# Altium integrated library Analog Devices Data Converters Digital-to-Analog Converters.IntLib: 2231 symbols (part 146 of 181)
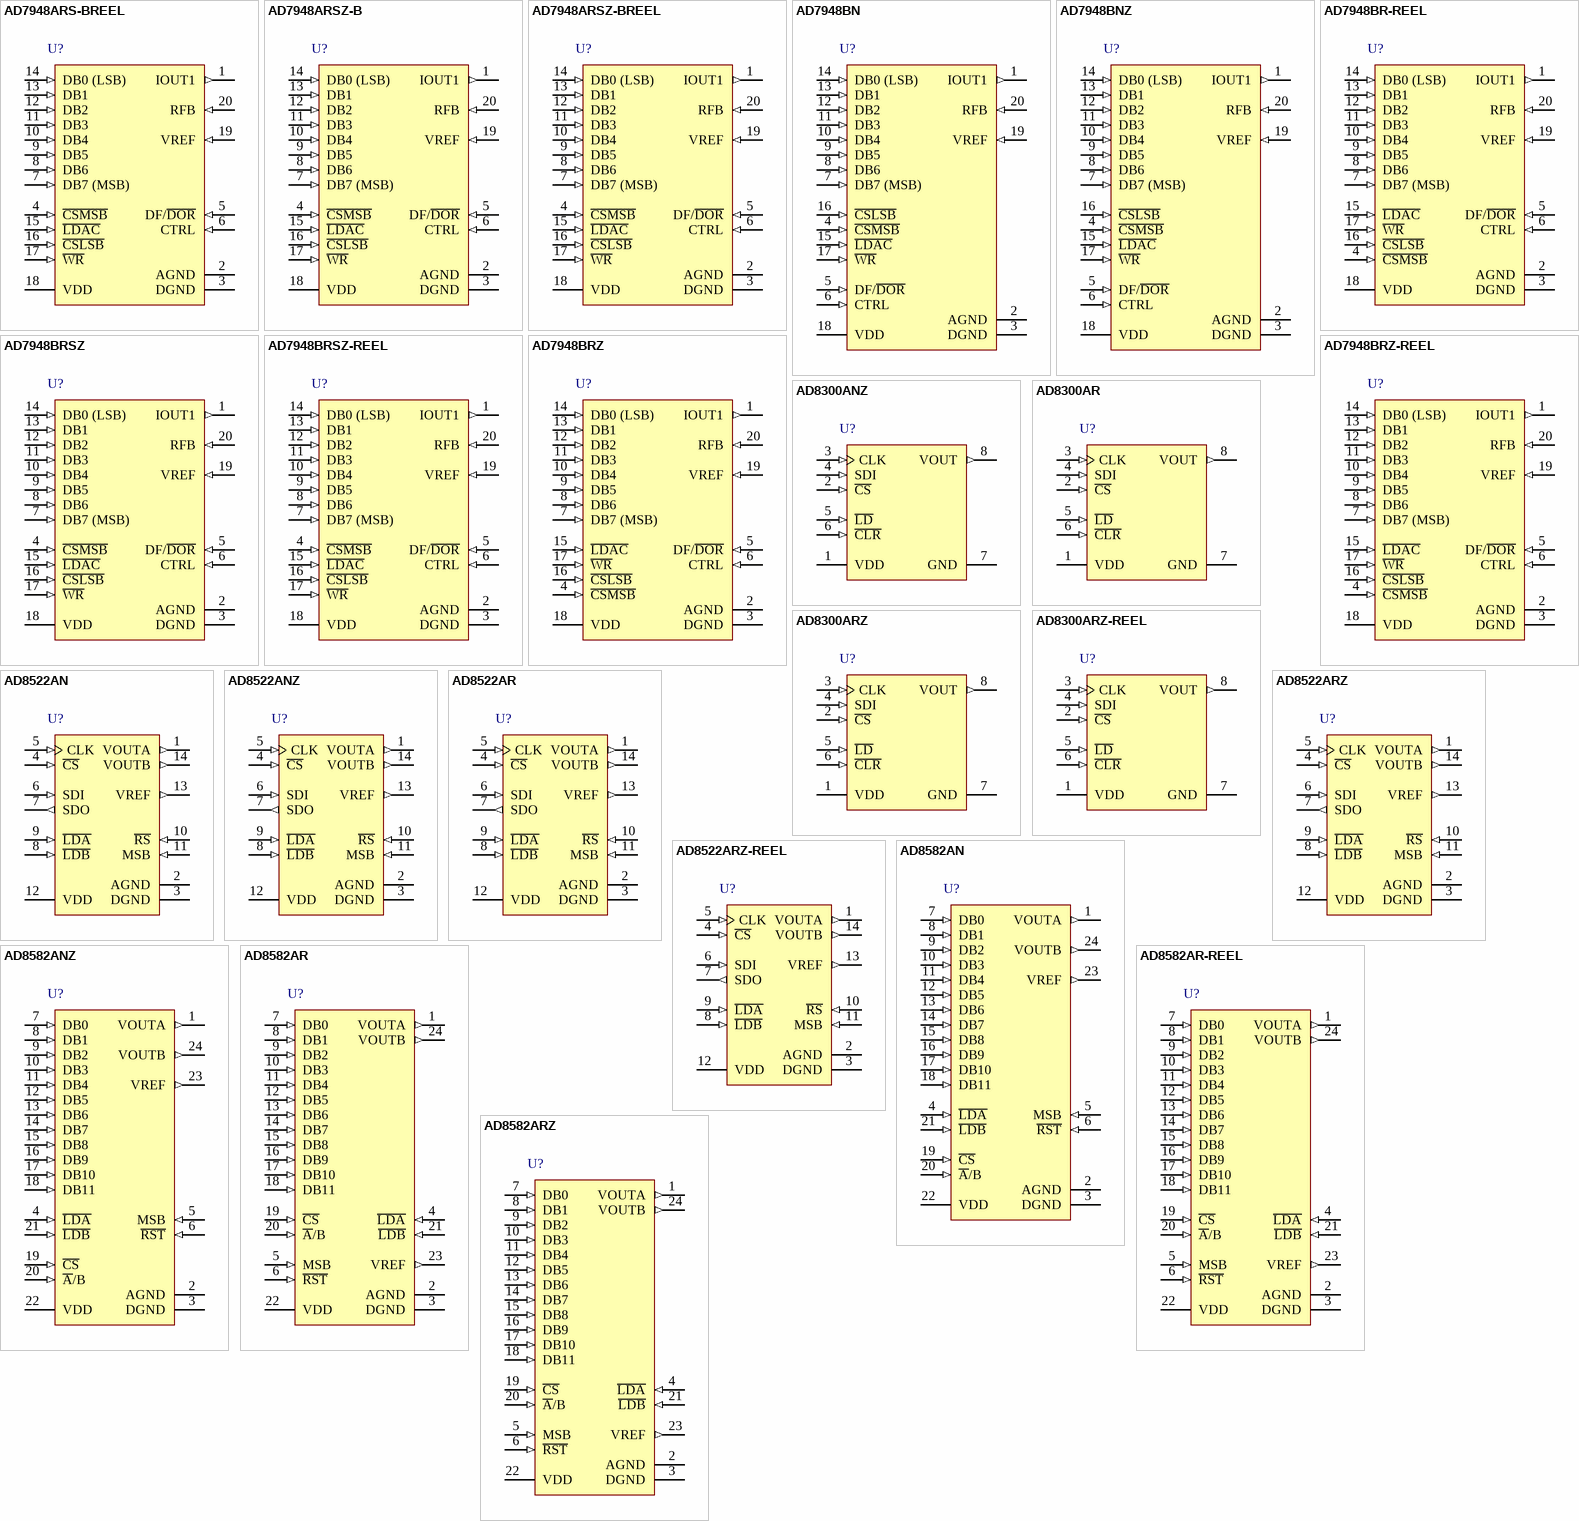
[diagram p259: symbols AD7948ARS-BREEL to AD8582ARZ]

## AD8300ANZ
designator U?
Single 12-Bit Digital-to-Analog Converter with Serial Interface, 3 V, -40 to +85 degC, N-8, Pb-Free, Tube; Generic Part Number: AD8300; Manufacturer: Analog Devices; PartNumber: AD8300ANZ; # DAC Outputs: 1; Max V+: 5.5V; Op Pwr Diss: 8.5mW; Resolution (Bits): 12; Settling Time: 14µs; Single Supply: Yes; DatasheetVersion: Rev.A; PackageVersion: 070606-A; PackageReference: N-8; PackageDescription: 8-Lead Plastic Dual In-Line Package [PDIP] Narrow Body; Supplier 1: Digi-Key; Supplier Part Number 1: AD8300ANZ-ND; Supplier 2: Mouser; Supplier Part Number 2: 584-AD8300ANZ; Packing: Tube; RoHS: Y; Mounting Technology: Through Hole; Code_JEDEC: MS-001; ComponentLink1Description: Manufacturer URL; ComponentLink1URL: http://www.analog.com/en/index.html; ComponentLink2Description: Datasheet; ComponentLink2URL: http://www.analog.com/static/imported-files/data_sheets/AD8300.pdf; ComponentLink3Description: Package Specification; ComponentLink3URL: http://www.analog.com/static/imported-files/packages/PKG_PDF/PDIP(N)/N_8.pdf; ComponentLink4Description: Product URL; ComponentLink4URL: http://www.analog.com/en/digital-to-analog-converters/da-converters/ad8300/products/product.html
footprint N-8 (DIP, 8-Leads, Row Spacing 7.62mm, Pitch 2.54mm, Body 9.6x6.6mm)
pins: 1 VDD (power) "Positive power supply input. Specified range of operation +2.7 V to +5.5 V.", 2 ~{CS} (in) "Chip Select, active low input. Disables shift register loading when high. Does not affect L\D\ operation.", 3 CLK (in) "Clock input, positive edge clocks data into shift register.", 4 SDI (in) "Serial Data Input, input data loads directly into the shift register, MSB first.", 5 ~{LD} (in) "Load DAC register strobes, active low. Transfers shift register data to DAC register. See Truth Table I for operation. Asynchronous active low input.", 6 ~{CLR} (in) "Resets DAC register to zero condition. Asynchronous active low input.", 7 GND (power) "Analog and Digital Ground.", 8 VOUT (out) "DAC voltage output, 2.0475 V full scale with 0.5 mV per bit. An internal temperature stabilized reference maintains a fixed full-scale voltage independent of time, temperature and power supply variations."

## AD8300AR
designator U?
Single 12-Bit Digital-to-Analog Converter with Serial Interface, 3 V, -40 to +85 degC, R-8, Tube; Generic Part Number: AD8300; Manufacturer: Analog Devices; PartNumber: AD8300AR; # DAC Outputs: 1; Max V+: 5.5V; Op Pwr Diss: 8.5mW; Resolution (Bits): 12; Settling Time: 14µs; Single Supply: Yes; DatasheetVersion: Rev.A; PackageVersion: 060506-A; PackageReference: R-8; PackageDescription: 8-Lead Standard Small Outline Package [SOIC_N] Narrow Body; Supplier 1: Digi-Key; Supplier Part Number 1: AD8300AR-ND; Supplier 2: Mouser; Supplier Part Number 2: 584-AD8300AR; Packing: Tube; RoHS: N; Mounting Technology: Surface Mount; Code_JEDEC: MS-012-AA; Code_IPC: SOIC127P600-8; ComponentLink1Description: Manufacturer URL; ComponentLink1URL: http://www.analog.com/en/index.html; ComponentLink2Description: Datasheet; ComponentLink2URL: http://www.analog.com/static/imported-files/data_sheets/AD8300.pdf; ComponentLink3Description: Package Specification; ComponentLink3URL: http://www.analog.com/static/imported-files/packages/PKG_PDF/SOIC_Narrow%20(R)/R_8.pdf; ComponentLink4Description: Product URL; ComponentLink4URL: http://www.analog.com/en/digital-to-analog-converters/da-converters/ad8300/products/product.html
footprint R-8_N (SOIC, 8-Leads, Body 4.9x3.9mm, Pitch 1.27mm, IPC Medium Density)
footprint R-8_L (SOIC, 8-Leads, Body 4.9x3.9mm, Pitch 1.27mm, IPC High Density)
footprint R-8_M (SOIC, 8-Leads, Body 4.9x3.9mm, Pitch 1.27mm, IPC Low Density)
pins: 1 VDD (power) "Positive power supply input. Specified range of operation +2.7 V to +5.5 V.", 2 ~{CS} (in) "Chip Select, active low input. Disables shift register loading when high. Does not affect L\D\ operation.", 3 CLK (in) "Clock input, positive edge clocks data into shift register.", 4 SDI (in) "Serial Data Input, input data loads directly into the shift register, MSB first.", 5 ~{LD} (in) "Load DAC register strobes, active low. Transfers shift register data to DAC register. See Truth Table I for operation. Asynchronous active low input.", 6 ~{CLR} (in) "Resets DAC register to zero condition. Asynchronous active low input.", 7 GND (power) "Analog and Digital Ground.", 8 VOUT (out) "DAC voltage output, 2.0475 V full scale with 0.5 mV per bit. An internal temperature stabilized reference maintains a fixed full-scale voltage independent of time, temperature and power supply variations."

## AD8300ARZ
designator U?
Single 12-Bit Digital-to-Analog Converter with Serial Interface, 3 V, -40 to +85 degC, R-8, Pb-Free, Tube; Generic Part Number: AD8300; Manufacturer: Analog Devices; PartNumber: AD8300ARZ; # DAC Outputs: 1; Max V+: 5.5V; Op Pwr Diss: 8.5mW; Resolution (Bits): 12; Settling Time: 14µs; Single Supply: Yes; DatasheetVersion: Rev.A; PackageVersion: 060506-A; PackageReference: R-8; PackageDescription: 8-Lead Standard Small Outline Package [SOIC_N] Narrow Body; Supplier 1: Digi-Key; Supplier Part Number 1: AD8300ARZ-ND; Supplier 2: Farnell; Supplier Part Number 2: 1438629; Supplier 3: Newark; Supplier Part Number 3: 59K6546; Supplier 4: Mouser; Supplier Part Number 4: 584-AD8300ARZ; Packing: Tube; RoHS: Y; Mounting Technology: Surface Mount; Code_JEDEC: MS-012-AA; Code_IPC: SOIC127P600-8; ComponentLink1Description: Manufacturer URL; ComponentLink1URL: http://www.analog.com/en/index.html; ComponentLink2Description: Datasheet; ComponentLink2URL: http://www.analog.com/static/imported-files/data_sheets/AD8300.pdf; ComponentLink3Description: Package Specification; ComponentLink3URL: http://www.analog.com/static/imported-files/packages/PKG_PDF/SOIC_Narrow%20(R)/R_8.pdf; ComponentLink4Description: Product URL; ComponentLink4URL: http://www.analog.com/en/digital-to-analog-converters/da-converters/ad8300/products/product.html
footprint R-8_N (SOIC, 8-Leads, Body 4.9x3.9mm, Pitch 1.27mm, IPC Medium Density)
footprint R-8_L (SOIC, 8-Leads, Body 4.9x3.9mm, Pitch 1.27mm, IPC High Density)
footprint R-8_M (SOIC, 8-Leads, Body 4.9x3.9mm, Pitch 1.27mm, IPC Low Density)
pins: 1 VDD (power) "Positive power supply input. Specified range of operation +2.7 V to +5.5 V.", 2 ~{CS} (in) "Chip Select, active low input. Disables shift register loading when high. Does not affect L\D\ operation.", 3 CLK (in) "Clock input, positive edge clocks data into shift register.", 4 SDI (in) "Serial Data Input, input data loads directly into the shift register, MSB first.", 5 ~{LD} (in) "Load DAC register strobes, active low. Transfers shift register data to DAC register. See Truth Table I for operation. Asynchronous active low input.", 6 ~{CLR} (in) "Resets DAC register to zero condition. Asynchronous active low input.", 7 GND (power) "Analog and Digital Ground.", 8 VOUT (out) "DAC voltage output, 2.0475 V full scale with 0.5 mV per bit. An internal temperature stabilized reference maintains a fixed full-scale voltage independent of time, temperature and power supply variations."

## AD8300ARZ-REEL
designator U?
Single 12-Bit Digital-to-Analog Converter with Serial Interface, 3 V, -40 to +85 degC, R-8, Pb-Free, Reel; Generic Part Number: AD8300; Manufacturer: Analog Devices; PartNumber: AD8300ARZ-REEL; # DAC Outputs: 1; Max V+: 5.5V; Op Pwr Diss: 8.5mW; Resolution (Bits): 12; Settling Time: 14µs; Single Supply: Yes; DatasheetVersion: Rev.A; PackageVersion: 060506-A; PackageReference: R-8; PackageDescription: 8-Lead Standard Small Outline Package [SOIC_N] Narrow Body; Supplier 1: Digi-Key; Supplier Part Number 1: AD8300ARZ-REEL-ND; Supplier 2: Mouser; Supplier Part Number 2: 584-AD8300ARZ-R; Packing: Reel; RoHS: Y; Mounting Technology: Surface Mount; Code_JEDEC: MS-012-AA; Code_IPC: SOIC127P600-8; ComponentLink1Description: Manufacturer URL; ComponentLink1URL: http://www.analog.com/en/index.html; ComponentLink2Description: Datasheet; ComponentLink2URL: http://www.analog.com/static/imported-files/data_sheets/AD8300.pdf; ComponentLink3Description: Package Specification; ComponentLink3URL: http://www.analog.com/static/imported-files/packages/PKG_PDF/SOIC_Narrow%20(R)/R_8.pdf; ComponentLink4Description: Product URL; ComponentLink4URL: http://www.analog.com/en/digital-to-analog-converters/da-converters/ad8300/products/product.html
footprint R-8_N (SOIC, 8-Leads, Body 4.9x3.9mm, Pitch 1.27mm, IPC Medium Density)
footprint R-8_L (SOIC, 8-Leads, Body 4.9x3.9mm, Pitch 1.27mm, IPC High Density)
footprint R-8_M (SOIC, 8-Leads, Body 4.9x3.9mm, Pitch 1.27mm, IPC Low Density)
pins: 1 VDD (power) "Positive power supply input. Specified range of operation +2.7 V to +5.5 V.", 2 ~{CS} (in) "Chip Select, active low input. Disables shift register loading when high. Does not affect L\D\ operation.", 3 CLK (in) "Clock input, positive edge clocks data into shift register.", 4 SDI (in) "Serial Data Input, input data loads directly into the shift register, MSB first.", 5 ~{LD} (in) "Load DAC register strobes, active low. Transfers shift register data to DAC register. See Truth Table I for operation. Asynchronous active low input.", 6 ~{CLR} (in) "Resets DAC register to zero condition. Asynchronous active low input.", 7 GND (power) "Analog and Digital Ground.", 8 VOUT (out) "DAC voltage output, 2.0475 V full scale with 0.5 mV per bit. An internal temperature stabilized reference maintains a fixed full-scale voltage independent of time, temperature and power supply variations."

## AD8522AN
designator U?
Dual 12-Bit Digital-to-Analog Converter with Serial Interface, 5 V, -40 to +85 degC, N-14, Tube; Generic Part Number: AD8522; Manufacturer: Analog Devices; PartNumber: AD8522AN; # DAC Outputs: 2; Max V+: 5.5V; Op Pwr Diss: 25mW; Resolution (Bits): 12; Settling Time: 16µs; Single Supply: Yes; DatasheetVersion: Rev.A; PackageVersion: 070606-A; PackageReference: N-14; PackageDescription: 14-Lead Plastic Dual In-Line Package [PDIP] Narrow Body; Supplier 1: Digi-Key; Supplier Part Number 1: AD8522AN-ND; Supplier 2: Newark; Supplier Part Number 2: 66F5918; Supplier 3: Mouser; Supplier Part Number 3: 584-AD8522AN; Packing: Tube; RoHS: N; Mounting Technology: Through Hole; Code_JEDEC: MS-001; ComponentLink1Description: Manufacturer URL; ComponentLink1URL: http://www.analog.com/en/index.html; ComponentLink2Description: Datasheet; ComponentLink2URL: http://www.analog.com/static/imported-files/data_sheets/AD8522.pdf; ComponentLink3Description: Package Specification; ComponentLink3URL: http://www.analog.com/static/imported-files/packages/N_14.pdf; ComponentLink4Description: Product URL; ComponentLink4URL: http://www.analog.com/en/digital-to-analog-converters/da-converters/ad8522/products/product.html
footprint N-14 (DIP, 14-Leads, Row Spacing 7.62mm, Pitch 2.54mm, Body 19.2x6.6mm)
pins: 1 VOUTA (out) "DAC A voltage outputs, 4.095 V full scale, +/-5 mA output.", 2 AGND (power) "Analog Ground Input.", 3 DGND (power) "Digital Ground Input.", 4 ~{CS} (in) "Chip Select, active low input. Prevents shift register loading when high. Does not affect L\D\A\ and L\D\B\ operation.", 5 CLK (in) "Clock input, positive edge clocks data into shift register.", 6 SDI (in) "Serial Data Input, input data loads directly into the shift register.", 7 SDO (out) "Serial Data Output. Output of shift register, always active.", 8 ~{LDB} (in) "Load DAC register strobes, active low. Transfers shift register data to DAC register. See truth table for operation.Software decode feature only requires one L\D\ strobe. Tie L\D\A\ and L\D\B\ together or use one of them (See Datasheet)", 9 ~{LDA} (in) "Load DAC register strobes, active low. Transfers shift register data to DAC register. See truth table for operation.Software decode feature only requires one L\D\ strobe. Tie L\D\A\ and L\D\B\ together or use one of them (See Datasheet)", 10 ~{RS} (in) "Resets DAC registers to condition determined by MSB pin. Active low input.", 11 MSB (in) "Digital input: High presets DAC registers to half scale (800H); Low clears all registers to zero (000H), when R\S\ is strobed to active low.", 12 VDD (power) "Positive +5 V power supply input. Tolerance +/-10%.", 13 VREF (out) "Reference Voltage Output, 2.5 V nominal.", 14 VOUTB (out) "DAC B voltage outputs, 4.095 V full scale, +/-5 mA output."

## AD8522ANZ
designator U?
Dual 12-Bit Digital-to-Analog Converter with Serial Interface, 5 V, -40 to +85 degC, N-14, Pb-Free, Tube; Generic Part Number: AD8522; Manufacturer: Analog Devices; PartNumber: AD8522ANZ; # DAC Outputs: 2; Max V+: 5.5V; Op Pwr Diss: 25mW; Resolution (Bits): 12; Settling Time: 16µs; Single Supply: Yes; DatasheetVersion: Rev.A; PackageVersion: 070606-A; PackageReference: N-14; PackageDescription: 14-Lead Plastic Dual In-Line Package [PDIP] Narrow Body; Supplier 1: Digi-Key; Supplier Part Number 1: AD8522ANZ-ND; Supplier 2: Mouser; Supplier Part Number 2: 584-AD8522ANZ; Packing: Tube; RoHS: Y; Mounting Technology: Through Hole; Code_JEDEC: MS-001; ComponentLink1Description: Manufacturer URL; ComponentLink1URL: http://www.analog.com/en/index.html; ComponentLink2Description: Datasheet; ComponentLink2URL: http://www.analog.com/static/imported-files/data_sheets/AD8522.pdf; ComponentLink3Description: Package Specification; ComponentLink3URL: http://www.analog.com/static/imported-files/packages/N_14.pdf; ComponentLink4Description: Product URL; ComponentLink4URL: http://www.analog.com/en/digital-to-analog-converters/da-converters/ad8522/products/product.html
footprint N-14 (DIP, 14-Leads, Row Spacing 7.62mm, Pitch 2.54mm, Body 19.2x6.6mm)
pins: 1 VOUTA (out) "DAC A voltage outputs, 4.095 V full scale, +/-5 mA output.", 2 AGND (power) "Analog Ground Input.", 3 DGND (power) "Digital Ground Input.", 4 ~{CS} (in) "Chip Select, active low input. Prevents shift register loading when high. Does not affect L\D\A\ and L\D\B\ operation.", 5 CLK (in) "Clock input, positive edge clocks data into shift register.", 6 SDI (in) "Serial Data Input, input data loads directly into the shift register.", 7 SDO (out) "Serial Data Output. Output of shift register, always active.", 8 ~{LDB} (in) "Load DAC register strobes, active low. Transfers shift register data to DAC register. See truth table for operation.Software decode feature only requires one L\D\ strobe. Tie L\D\A\ and L\D\B\ together or use one of them (See Datasheet)", 9 ~{LDA} (in) "Load DAC register strobes, active low. Transfers shift register data to DAC register. See truth table for operation.Software decode feature only requires one L\D\ strobe. Tie L\D\A\ and L\D\B\ together or use one of them (See Datasheet)", 10 ~{RS} (in) "Resets DAC registers to condition determined by MSB pin. Active low input.", 11 MSB (in) "Digital input: High presets DAC registers to half scale (800H); Low clears all registers to zero (000H), when R\S\ is strobed to active low.", 12 VDD (power) "Positive +5 V power supply input. Tolerance +/-10%.", 13 VREF (out) "Reference Voltage Output, 2.5 V nominal.", 14 VOUTB (out) "DAC B voltage outputs, 4.095 V full scale, +/-5 mA output."

## AD8522AR
designator U?
Dual 12-Bit Digital-to-Analog Converter with Serial Interface, 5 V, -40 to +85 degC, R-14, Tube; Generic Part Number: AD8522; Manufacturer: Analog Devices; PartNumber: AD8522AR; # DAC Outputs: 2; Max V+: 5.5V; Op Pwr Diss: 25mW; Resolution (Bits): 12; Settling Time: 16µs; Single Supply: Yes; DatasheetVersion: Rev.A; PackageVersion: 060606-A; PackageReference: R-14; PackageDescription: 14-Lead Standard Small Outline Package [SOIC_N]; Supplier 1: Digi-Key; Supplier Part Number 1: AD8522AR-ND; Supplier 2: Mouser; Supplier Part Number 2: 584-AD8522AR; Packing: Tube; RoHS: N; Mounting Technology: Surface Mount; Code_JEDEC: MS-012-AB; Code_IPC: SOIC127P600-14; ComponentLink1Description: Manufacturer URL; ComponentLink1URL: http://www.analog.com/en/index.html; ComponentLink2Description: Datasheet; ComponentLink2URL: http://www.analog.com/static/imported-files/data_sheets/AD8522.pdf; ComponentLink3Description: Package Specification; ComponentLink3URL: http://www.analog.com/static/imported-files/packages/PKG_PDF/SOIC_Narrow%20(R)/R_14.pdf; ComponentLink4Description: Product URL; ComponentLink4URL: http://www.analog.com/en/digital-to-analog-converters/da-converters/ad8522/products/product.html
footprint R-14_N (SOIC, 14-Leads, Body 8.7x3.9mm, Pitch 1.27mm, IPC Medium Density)
footprint R-14_L (SOIC, 14-Leads, Body 8.7x3.9mm, Pitch 1.27mm, IPC High Density)
footprint R-14_M (SOIC, 14-Leads, Body 8.7x3.9mm, Pitch 1.27mm, IPC Low Density)
pins: 1 VOUTA (out) "DAC A voltage outputs, 4.095 V full scale, +/-5 mA output.", 2 AGND (power) "Analog Ground Input.", 3 DGND (power) "Digital Ground Input.", 4 ~{CS} (in) "Chip Select, active low input. Prevents shift register loading when high. Does not affect L\D\A\ and L\D\B\ operation.", 5 CLK (in) "Clock input, positive edge clocks data into shift register.", 6 SDI (in) "Serial Data Input, input data loads directly into the shift register.", 7 SDO (out) "Serial Data Output. Output of shift register, always active.", 8 ~{LDB} (in) "Load DAC register strobes, active low. Transfers shift register data to DAC register. See truth table for operation.Software decode feature only requires one L\D\ strobe. Tie L\D\A\ and L\D\B\ together or use one of them (See Datasheet)", 9 ~{LDA} (in) "Load DAC register strobes, active low. Transfers shift register data to DAC register. See truth table for operation.Software decode feature only requires one L\D\ strobe. Tie L\D\A\ and L\D\B\ together or use one of them (See Datasheet)", 10 ~{RS} (in) "Resets DAC registers to condition determined by MSB pin. Active low input.", 11 MSB (in) "Digital input: High presets DAC registers to half scale (800H); Low clears all registers to zero (000H), when R\S\ is strobed to active low.", 12 VDD (power) "Positive +5 V power supply input. Tolerance +/-10%.", 13 VREF (out) "Reference Voltage Output, 2.5 V nominal.", 14 VOUTB (out) "DAC B voltage outputs, 4.095 V full scale, +/-5 mA output."

## AD8522ARZ
designator U?
Dual 12-Bit Digital-to-Analog Converter with Serial Interface, 5 V, -40 to +85 degC, R-14, Pb-Free, Tube; Generic Part Number: AD8522; Manufacturer: Analog Devices; PartNumber: AD8522ARZ; # DAC Outputs: 2; Max V+: 5.5V; Op Pwr Diss: 25mW; Resolution (Bits): 12; Settling Time: 16µs; Single Supply: Yes; DatasheetVersion: Rev.A; PackageVersion: 060606-A; PackageReference: R-14; PackageDescription: 14-Lead Standard Small Outline Package [SOIC_N]; Supplier 1: Digi-Key; Supplier Part Number 1: AD8522ARZ-ND; Supplier 2: Farnell; Supplier Part Number 2: 2305694; Supplier 3: Newark; Supplier Part Number 3: 59K6799; Supplier 4: Mouser; Supplier Part Number 4: 584-AD8522ARZ; Packing: Tube; RoHS: Y; Mounting Technology: Surface Mount; Code_JEDEC: MS-012-AB; Code_IPC: SOIC127P600-14; ComponentLink1Description: Manufacturer URL; ComponentLink1URL: http://www.analog.com/en/index.html; ComponentLink2Description: Datasheet; ComponentLink2URL: http://www.analog.com/static/imported-files/data_sheets/AD8522.pdf; ComponentLink3Description: Package Specification; ComponentLink3URL: http://www.analog.com/static/imported-files/packages/PKG_PDF/SOIC_Narrow%20(R)/R_14.pdf; ComponentLink4Description: Product URL; ComponentLink4URL: http://www.analog.com/en/digital-to-analog-converters/da-converters/ad8522/products/product.html
footprint R-14_N (SOIC, 14-Leads, Body 8.7x3.9mm, Pitch 1.27mm, IPC Medium Density)
footprint R-14_L (SOIC, 14-Leads, Body 8.7x3.9mm, Pitch 1.27mm, IPC High Density)
footprint R-14_M (SOIC, 14-Leads, Body 8.7x3.9mm, Pitch 1.27mm, IPC Low Density)
pins: 1 VOUTA (out) "DAC A voltage outputs, 4.095 V full scale, +/-5 mA output.", 2 AGND (power) "Analog Ground Input.", 3 DGND (power) "Digital Ground Input.", 4 ~{CS} (in) "Chip Select, active low input. Prevents shift register loading when high. Does not affect L\D\A\ and L\D\B\ operation.", 5 CLK (in) "Clock input, positive edge clocks data into shift register.", 6 SDI (in) "Serial Data Input, input data loads directly into the shift register.", 7 SDO (out) "Serial Data Output. Output of shift register, always active.", 8 ~{LDB} (in) "Load DAC register strobes, active low. Transfers shift register data to DAC register. See truth table for operation.Software decode feature only requires one L\D\ strobe. Tie L\D\A\ and L\D\B\ together or use one of them (See Datasheet)", 9 ~{LDA} (in) "Load DAC register strobes, active low. Transfers shift register data to DAC register. See truth table for operation.Software decode feature only requires one L\D\ strobe. Tie L\D\A\ and L\D\B\ together or use one of them (See Datasheet)", 10 ~{RS} (in) "Resets DAC registers to condition determined by MSB pin. Active low input.", 11 MSB (in) "Digital input: High presets DAC registers to half scale (800H); Low clears all registers to zero (000H), when R\S\ is strobed to active low.", 12 VDD (power) "Positive +5 V power supply input. Tolerance +/-10%.", 13 VREF (out) "Reference Voltage Output, 2.5 V nominal.", 14 VOUTB (out) "DAC B voltage outputs, 4.095 V full scale, +/-5 mA output."

## AD8522ARZ-REEL
designator U?
Dual 12-Bit Digital-to-Analog Converter with Serial Interface, 5 V, -40 to +85 degC, R-14, Pb-Free, Reel; Generic Part Number: AD8522; Manufacturer: Analog Devices; PartNumber: AD8522ARZ-REEL; # DAC Outputs: 2; Max V+: 5.5V; Op Pwr Diss: 25mW; Resolution (Bits): 12; Settling Time: 16µs; Single Supply: Yes; DatasheetVersion: Rev.A; PackageVersion: 060606-A; PackageReference: R-14; PackageDescription: 14-Lead Standard Small Outline Package [SOIC_N]; Supplier 1: Digi-Key; Supplier Part Number 1: AD8522ARZ-REEL-ND; Supplier 2: Mouser; Supplier Part Number 2: 584-AD8522ARZ-R; Packing: Reel; RoHS: Y; Mounting Technology: Surface Mount; Code_JEDEC: MS-012-AB; Code_IPC: SOIC127P600-14; ComponentLink1Description: Manufacturer URL; ComponentLink1URL: http://www.analog.com/en/index.html; ComponentLink2Description: Datasheet; ComponentLink2URL: http://www.analog.com/static/imported-files/data_sheets/AD8522.pdf; ComponentLink3Description: Package Specification; ComponentLink3URL: http://www.analog.com/static/imported-files/packages/PKG_PDF/SOIC_Narrow%20(R)/R_14.pdf; ComponentLink4Description: Product URL; ComponentLink4URL: http://www.analog.com/en/digital-to-analog-converters/da-converters/ad8522/products/product.html
footprint R-14_N (SOIC, 14-Leads, Body 8.7x3.9mm, Pitch 1.27mm, IPC Medium Density)
footprint R-14_L (SOIC, 14-Leads, Body 8.7x3.9mm, Pitch 1.27mm, IPC High Density)
footprint R-14_M (SOIC, 14-Leads, Body 8.7x3.9mm, Pitch 1.27mm, IPC Low Density)
pins: 1 VOUTA (out) "DAC A voltage outputs, 4.095 V full scale, +/-5 mA output.", 2 AGND (power) "Analog Ground Input.", 3 DGND (power) "Digital Ground Input.", 4 ~{CS} (in) "Chip Select, active low input. Prevents shift register loading when high. Does not affect L\D\A\ and L\D\B\ operation.", 5 CLK (in) "Clock input, positive edge clocks data into shift register.", 6 SDI (in) "Serial Data Input, input data loads directly into the shift register.", 7 SDO (out) "Serial Data Output. Output of shift register, always active.", 8 ~{LDB} (in) "Load DAC register strobes, active low. Transfers shift register data to DAC register. See truth table for operation.Software decode feature only requires one L\D\ strobe. Tie L\D\A\ and L\D\B\ together or use one of them (See Datasheet)", 9 ~{LDA} (in) "Load DAC register strobes, active low. Transfers shift register data to DAC register. See truth table for operation.Software decode feature only requires one L\D\ strobe. Tie L\D\A\ and L\D\B\ together or use one of them (See Datasheet)", 10 ~{RS} (in) "Resets DAC registers to condition determined by MSB pin. Active low input.", 11 MSB (in) "Digital input: High presets DAC registers to half scale (800H); Low clears all registers to zero (000H), when R\S\ is strobed to active low.", 12 VDD (power) "Positive +5 V power supply input. Tolerance +/-10%.", 13 VREF (out) "Reference Voltage Output, 2.5 V nominal.", 14 VOUTB (out) "DAC B voltage outputs, 4.095 V full scale, +/-5 mA output."

## AD8582AN
designator U?
Dual 12-Bit Digital-to-Analog Converter with Parallel Interface, 5 V, -40 to +85 degC, N-24-1, Tube; Generic Part Number: AD8582; Manufacturer: Analog Devices; PartNumber: AD8582AN; # DAC Outputs: 2; Max V+: 5.25V; Op Pwr Diss: 35mW; Resolution (Bits): 12; Settling Time: 16µs; Single Supply: Yes; DatasheetVersion: Rev.0; PackageVersion: 071006-A; PackageReference: N-24-1; PackageDescription: 24-Lead Plastic Dual In-Line Package [PDIP] Narrow Body; Supplier 1: Digi-Key; Supplier Part Number 1: AD8582AN-ND; Supplier 2: Mouser; Supplier Part Number 2: 584-AD8582AN; Packing: Tube; RoHS: N; Mounting Technology: Through Hole; Code_JEDEC: MS-001; ComponentLink1Description: Manufacturer URL; ComponentLink1URL: http://www.analog.com/en/index.html; ComponentLink2Description: Datasheet; ComponentLink2URL: http://www.analog.com/static/imported-files/data_sheets/AD8582.pdf; ComponentLink3Description: Package Specification; ComponentLink3URL: http://www.analog.com/static/imported-files/packages/50726455539629N_24_1.pdf; ComponentLink4Description: Product URL; ComponentLink4URL: http://www.analog.com/en/digital-to-analog-converters/da-converters/ad8582/products/product.html
footprint N-24-1 (DIP, 24-Leads, Row Spacing 7.62mm, Pitch 2.54mm, Body 31.9x6.6mm)
pins: 1 VOUTA (out) "Voltage outputs from the DACs. Fixed output voltage range of 0 V to 4.095 V with 1 mV/LSB. An internal temperature stabilized reference maintains a fixed full-scale voltage independent of time, temperature and power supply (See Datasheet)", 2 AGND (power) "Analog Ground. Ground reference for the internal bandgap reference voltage, the DAC, and the output buffer.", 3 DGND (power) "Digital ground for input logic.", 4 ~{LDA} (in) "Load DAC register strobes. Transfers input register data to the DAC registers. Active low inputs, Level sensitive latch. May be connected together to doublebuffer load DAC registers.", 5 MSB (in) "Digital Input: High presets DAC registers to half scale (800H), Low clears DAC registers to zero (000H) upon R\S\T\ assertion.", 6 ~{RST} (in) "Active low digital input that clears the DAC register to zero, setting the DAC to minimum scale when MSB pin = 0, or half-scale when MSB pin = 1.", 7 DB0 (in) "Binary Data Bit Input. DB0 is the LSB.", 8 DB1 (in) "Binary Data Bit Input.", 9 DB2 (in) "Binary Data Bit Input.", 10 DB3 (in) "Binary Data Bit Input.", 11 DB4 (in) "Binary Data Bit Input.", 12 DB5 (in) "Binary Data Bit Input.", 13 DB6 (in) "Binary Data Bit Input.", 14 DB7 (in) "Binary Data Bit Input.", 15 DB8 (in) "Binary Data Bit Input.", 16 DB9 (in) "Binary Data Bit Input.", 17 DB10 (in) "Binary Data Bit Input.", 18 DB11 (in) "Binary Data Bit Input.DB11 is the MSB .", 19 ~{CS} (in) "Chip Select. Active low input.", 20 ~{A}/B (in) "Select DAC A = 0 or DAC B = 1.", 21 ~{LDB} (in) "Load DAC register strobes. Transfers input register data to the DAC registers. Active low inputs, Level sensitive latch. May be connected together to doublebuffer load DAC registers.", 22 VDD (power) "Positive Supply. Nominal value +5 V, +/-5%.", 23 VREF (out) "Nominal 2.5 V reference output voltage. This node must be buffered if required to drive external loads.", 24 VOUTB (out) "Voltage outputs from the DACs. Fixed output voltage range of 0 V to 4.095 V with 1 mV/LSB. An internal temperature stabilized reference maintains a fixed full-scale voltage independent of time, temperature and power supply (See Datasheet)"

## AD8582ANZ
designator U?
Dual 12-Bit Digital-to-Analog Converter with Parallel Interface, 5 V, -40 to +85 degC, N-24-1, Pb-Free, Tube; Generic Part Number: AD8582; Manufacturer: Analog Devices; PartNumber: AD8582ANZ; # DAC Outputs: 2; Max V+: 5.25V; Op Pwr Diss: 35mW; Resolution (Bits): 12; Settling Time: 16µs; Single Supply: Yes; DatasheetVersion: Rev.0; PackageVersion: 071006-A; PackageReference: N-24-1; PackageDescription: 24-Lead Plastic Dual In-Line Package [PDIP] Narrow Body; Supplier 1: Digi-Key; Supplier Part Number 1: AD8582ANZ-ND; Supplier 2: Newark; Supplier Part Number 2: 12M9119; Supplier 3: Mouser; Supplier Part Number 3: 584-AD8582ANZ; Packing: Tube; RoHS: Y; Mounting Technology: Through Hole; Code_JEDEC: MS-001; ComponentLink1Description: Manufacturer URL; ComponentLink1URL: http://www.analog.com/en/index.html; ComponentLink2Description: Datasheet; ComponentLink2URL: http://www.analog.com/static/imported-files/data_sheets/AD8582.pdf; ComponentLink3Description: Package Specification; ComponentLink3URL: http://www.analog.com/static/imported-files/packages/50726455539629N_24_1.pdf; ComponentLink4Description: Product URL; ComponentLink4URL: http://www.analog.com/en/digital-to-analog-converters/da-converters/ad8582/products/product.html
footprint N-24-1 (DIP, 24-Leads, Row Spacing 7.62mm, Pitch 2.54mm, Body 31.9x6.6mm)
pins: 1 VOUTA (out) "Voltage outputs from the DACs. Fixed output voltage range of 0 V to 4.095 V with 1 mV/LSB. An internal temperature stabilized reference maintains a fixed full-scale voltage independent of time, temperature and power supply (See Datasheet)", 2 AGND (power) "Analog Ground. Ground reference for the internal bandgap reference voltage, the DAC, and the output buffer.", 3 DGND (power) "Digital ground for input logic.", 4 ~{LDA} (in) "Load DAC register strobes. Transfers input register data to the DAC registers. Active low inputs, Level sensitive latch. May be connected together to doublebuffer load DAC registers.", 5 MSB (in) "Digital Input: High presets DAC registers to half scale (800H), Low clears DAC registers to zero (000H) upon R\S\T\ assertion.", 6 ~{RST} (in) "Active low digital input that clears the DAC register to zero, setting the DAC to minimum scale when MSB pin = 0, or half-scale when MSB pin = 1.", 7 DB0 (in) "Binary Data Bit Input. DB0 is the LSB.", 8 DB1 (in) "Binary Data Bit Input.", 9 DB2 (in) "Binary Data Bit Input.", 10 DB3 (in) "Binary Data Bit Input.", 11 DB4 (in) "Binary Data Bit Input.", 12 DB5 (in) "Binary Data Bit Input.", 13 DB6 (in) "Binary Data Bit Input.", 14 DB7 (in) "Binary Data Bit Input.", 15 DB8 (in) "Binary Data Bit Input.", 16 DB9 (in) "Binary Data Bit Input.", 17 DB10 (in) "Binary Data Bit Input.", 18 DB11 (in) "Binary Data Bit Input.DB11 is the MSB .", 19 ~{CS} (in) "Chip Select. Active low input.", 20 ~{A}/B (in) "Select DAC A = 0 or DAC B = 1.", 21 ~{LDB} (in) "Load DAC register strobes. Transfers input register data to the DAC registers. Active low inputs, Level sensitive latch. May be connected together to doublebuffer load DAC registers.", 22 VDD (power) "Positive Supply. Nominal value +5 V, +/-5%.", 23 VREF (out) "Nominal 2.5 V reference output voltage. This node must be buffered if required to drive external loads.", 24 VOUTB (out) "Voltage outputs from the DACs. Fixed output voltage range of 0 V to 4.095 V with 1 mV/LSB. An internal temperature stabilized reference maintains a fixed full-scale voltage independent of time, temperature and power supply (See Datasheet)"

## AD8582AR
designator U?
Dual 12-Bit Digital-to-Analog Converter with Parallel Interface, 5 V, -40 to +85 degC, RW-24, Tube; Generic Part Number: AD8582; Manufacturer: Analog Devices; PartNumber: AD8582AR; # DAC Outputs: 2; Max V+: 5.25V; Op Pwr Diss: 35mW; Resolution (Bits): 12; Settling Time: 16µs; Single Supply: Yes; DatasheetVersion: Rev.0; PackageVersion: 060706-A; PackageReference: RW-24; PackageDescription: 24-Lead Standard Small Outline Package [SOIC_W]; Supplier 1: Digi-Key; Supplier Part Number 1: AD8582AR-ND; Supplier 2: Mouser; Supplier Part Number 2: 584-AD8582AR; Packing: Tube; RoHS: N; Mounting Technology: Surface Mount; Code_JEDEC: MS-013-AD; ComponentLink1Description: Manufacturer URL; ComponentLink1URL: http://www.analog.com/en/index.html; ComponentLink2Description: Datasheet; ComponentLink2URL: http://www.analog.com/static/imported-files/data_sheets/AD8582.pdf; ComponentLink3Description: Package Specification; ComponentLink3URL: http://www.analog.com/static/imported-files/packages/33665150946139RW_24.pdf; ComponentLink4Description: Product URL; ComponentLink4URL: http://www.analog.com/en/digital-to-analog-converters/da-converters/ad8582/products/product.html
footprint RW-24_N (SOIC, 24-Leads, Body 15.4x7.5mm, Pitch 1.27mm, IPC Medium Density)
footprint RW-24_L (SOIC, 24-Leads, Body 15.4x7.5mm, Pitch 1.27mm, IPC High Density)
footprint RW-24_M (SOIC, 24-Leads, Body 15.4x7.5mm, Pitch 1.27mm, IPC Low Density)
pins: 1 VOUTA (out) "Voltage outputs from the DACs. Fixed output voltage range of 0 V to 4.095 V with 1 mV/LSB. An internal temperature stabilized reference maintains a fixed full-scale voltage independent of time, temperature and power supply (See Datasheet)", 2 AGND (power) "Analog Ground. Ground reference for the internal bandgap reference voltage, the DAC, and the output buffer.", 3 DGND (power) "Digital ground for input logic.", 4 ~{LDA} (in) "Load DAC register strobes. Transfers input register data to the DAC registers. Active low inputs, Level sensitive latch. May be connected together to doublebuffer load DAC registers.", 5 MSB (in) "Digital Input: High presets DAC registers to half scale (800H), Low clears DAC registers to zero (000H) upon R\S\T\ assertion.", 6 ~{RST} (in) "Active low digital input that clears the DAC register to zero, setting the DAC to minimum scale when MSB pin = 0, or half-scale when MSB pin = 1.", 7 DB0 (in) "Twelve Binary Data Bit Input.  DB0 is the LSB.", 8 DB1 (in) "Twelve Binary Data Bit Input.", 9 DB2 (in) "Twelve Binary Data Bit Input.", 10 DB3 (in) "Twelve Binary Data Bit Input.", 11 DB4 (in) "Twelve Binary Data Bit Input.", 12 DB5 (in) "Twelve Binary Data Bit Input.", 13 DB6 (in) "Twelve Binary Data Bit Input.", 14 DB7 (in) "Twelve Binary Data Bit Input.", 15 DB8 (in) "Twelve Binary Data Bit Input.", 16 DB9 (in) "Twelve Binary Data Bit Input.", 17 DB10 (in) "Twelve Binary Data Bit Input.", 18 DB11 (in) "Twelve Binary Data Bit Input. DB11 is the MSB.", 19 ~{CS} (in) "Chip Select. Active low input.", 20 ~{A}/B (in) "Select DAC A = 0 or DAC B = 1.", 21 ~{LDB} (in) "Load DAC register strobes. Transfers input register data to the DAC registers. Active low inputs, Level sensitive latch. May be connected together to doublebuffer load DAC registers.", 22 VDD (power) "Positive Supply. Nominal value +5 V, +/-5%.", 23 VREF (out) "Nominal 2.5 V reference output voltage. This node must be buffered if required to drive external loads.", 24 VOUTB (out) "Voltage outputs from the DACs. Fixed output voltage range of 0 V to 4.095 V with 1 mV/LSB. An internal temperature stabilized reference maintains a fixed full-scale voltage independent of time, temperature and power supply (See Datasheet)"

## AD8582AR-REEL
designator U?
Dual 12-Bit Digital-to-Analog Converter with Parallel Interface, 5 V, -40 to +85 degC, RW-24, Reel; Generic Part Number: AD8582; Manufacturer: Analog Devices; PartNumber: AD8582AR-REEL; # DAC Outputs: 2; Max V+: 5.25V; Op Pwr Diss: 35mW; Resolution (Bits): 12; Settling Time: 16µs; Single Supply: Yes; DatasheetVersion: Rev.0; PackageVersion: 060706-A; PackageReference: RW-24; PackageDescription: 24-Lead Standard Small Outline Package [SOIC_W]; Supplier 1: Digi-Key; Supplier Part Number 1: AD8582AR-REEL-ND; Supplier 2: Newark; Supplier Part Number 2: 59K6879; Supplier 3: Mouser; Supplier Part Number 3: 584-AD8582AR-R; Packing: Reel; RoHS: N; Mounting Technology: Surface Mount; Code_JEDEC: MS-013-AD; ComponentLink1Description: Manufacturer URL; ComponentLink1URL: http://www.analog.com/en/index.html; ComponentLink2Description: Datasheet; ComponentLink2URL: http://www.analog.com/static/imported-files/data_sheets/AD8582.pdf; ComponentLink3Description: Package Specification; ComponentLink3URL: http://www.analog.com/static/imported-files/packages/33665150946139RW_24.pdf; ComponentLink4Description: Product URL; ComponentLink4URL: http://www.analog.com/en/digital-to-analog-converters/da-converters/ad8582/products/product.html
footprint RW-24_N (SOIC, 24-Leads, Body 15.4x7.5mm, Pitch 1.27mm, IPC Medium Density)
footprint RW-24_L (SOIC, 24-Leads, Body 15.4x7.5mm, Pitch 1.27mm, IPC High Density)
footprint RW-24_M (SOIC, 24-Leads, Body 15.4x7.5mm, Pitch 1.27mm, IPC Low Density)
pins: 1 VOUTA (out) "Voltage outputs from the DACs. Fixed output voltage range of 0 V to 4.095 V with 1 mV/LSB. An internal temperature stabilized reference maintains a fixed full-scale voltage independent of time, temperature and power supply (See Datasheet)", 2 AGND (power) "Analog Ground. Ground reference for the internal bandgap reference voltage, the DAC, and the output buffer.", 3 DGND (power) "Digital ground for input logic.", 4 ~{LDA} (in) "Load DAC register strobes. Transfers input register data to the DAC registers. Active low inputs, Level sensitive latch. May be connected together to doublebuffer load DAC registers.", 5 MSB (in) "Digital Input: High presets DAC registers to half scale (800H), Low clears DAC registers to zero (000H) upon R\S\T\ assertion.", 6 ~{RST} (in) "Active low digital input that clears the DAC register to zero, setting the DAC to minimum scale when MSB pin = 0, or half-scale when MSB pin = 1.", 7 DB0 (in) "Twelve Binary Data Bit Input.  DB0 is the LSB.", 8 DB1 (in) "Twelve Binary Data Bit Input.", 9 DB2 (in) "Twelve Binary Data Bit Input.", 10 DB3 (in) "Twelve Binary Data Bit Input.", 11 DB4 (in) "Twelve Binary Data Bit Input.", 12 DB5 (in) "Twelve Binary Data Bit Input.", 13 DB6 (in) "Twelve Binary Data Bit Input.", 14 DB7 (in) "Twelve Binary Data Bit Input.", 15 DB8 (in) "Twelve Binary Data Bit Input.", 16 DB9 (in) "Twelve Binary Data Bit Input.", 17 DB10 (in) "Twelve Binary Data Bit Input.", 18 DB11 (in) "Twelve Binary Data Bit Input. DB11 is the MSB.", 19 ~{CS} (in) "Chip Select. Active low input.", 20 ~{A}/B (in) "Select DAC A = 0 or DAC B = 1.", 21 ~{LDB} (in) "Load DAC register strobes. Transfers input register data to the DAC registers. Active low inputs, Level sensitive latch. May be connected together to doublebuffer load DAC registers.", 22 VDD (power) "Positive Supply. Nominal value +5 V, +/-5%.", 23 VREF (out) "Nominal 2.5 V reference output voltage. This node must be buffered if required to drive external loads.", 24 VOUTB (out) "Voltage outputs from the DACs. Fixed output voltage range of 0 V to 4.095 V with 1 mV/LSB. An internal temperature stabilized reference maintains a fixed full-scale voltage independent of time, temperature and power supply (See Datasheet)"

## AD8582ARZ
designator U?
Dual 12-Bit Digital-to-Analog Converter with Parallel Interface, 5 V, -40 to +85 degC, RW-24, Pb-Free, Tube; Generic Part Number: AD8582; Manufacturer: Analog Devices; PartNumber: AD8582ARZ; # DAC Outputs: 2; Max V+: 5.25V; Op Pwr Diss: 35mW; Resolution (Bits): 12; Settling Time: 16µs; Single Supply: Yes; DatasheetVersion: Rev.0; PackageVersion: 060706-A; PackageReference: RW-24; PackageDescription: 24-Lead Standard Small Outline Package [SOIC_W]; Supplier 1: Digi-Key; Supplier Part Number 1: AD8582ARZ-ND; Supplier 2: Newark; Supplier Part Number 2: 59K6880; Supplier 3: Mouser; Supplier Part Number 3: 584-AD8582ARZ; Packing: Tube; RoHS: Y; Mounting Technology: Surface Mount; Code_JEDEC: MS-013-AD; ComponentLink1Description: Manufacturer URL; ComponentLink1URL: http://www.analog.com/en/index.html; ComponentLink2Description: Datasheet; ComponentLink2URL: http://www.analog.com/static/imported-files/data_sheets/AD8582.pdf; ComponentLink3Description: Package Specification; ComponentLink3URL: http://www.analog.com/static/imported-files/packages/33665150946139RW_24.pdf; ComponentLink4Description: Product URL; ComponentLink4URL: http://www.analog.com/en/digital-to-analog-converters/da-converters/ad8582/products/product.html
footprint RW-24_N (SOIC, 24-Leads, Body 15.4x7.5mm, Pitch 1.27mm, IPC Medium Density)
footprint RW-24_L (SOIC, 24-Leads, Body 15.4x7.5mm, Pitch 1.27mm, IPC High Density)
footprint RW-24_M (SOIC, 24-Leads, Body 15.4x7.5mm, Pitch 1.27mm, IPC Low Density)
pins: 1 VOUTA (out) "Voltage outputs from the DACs. Fixed output voltage range of 0 V to 4.095 V with 1 mV/LSB. An internal temperature stabilized reference maintains a fixed full-scale voltage independent of time, temperature and power supply (See Datasheet)", 2 AGND (power) "Analog Ground. Ground reference for the internal bandgap reference voltage, the DAC, and the output buffer.", 3 DGND (power) "Digital ground for input logic.", 4 ~{LDA} (in) "Load DAC register strobes. Transfers input register data to the DAC registers. Active low inputs, Level sensitive latch. May be connected together to doublebuffer load DAC registers.", 5 MSB (in) "Digital Input: High presets DAC registers to half scale (800H), Low clears DAC registers to zero (000H) upon R\S\T\ assertion.", 6 ~{RST} (in) "Active low digital input that clears the DAC register to zero, setting the DAC to minimum scale when MSB pin = 0, or half-scale when MSB pin = 1.", 7 DB0 (in) "Twelve Binary Data Bit Input.  DB0 is the LSB.", 8 DB1 (in) "Twelve Binary Data Bit Input.", 9 DB2 (in) "Twelve Binary Data Bit Input.", 10 DB3 (in) "Twelve Binary Data Bit Input.", 11 DB4 (in) "Twelve Binary Data Bit Input.", 12 DB5 (in) "Twelve Binary Data Bit Input.", 13 DB6 (in) "Twelve Binary Data Bit Input.", 14 DB7 (in) "Twelve Binary Data Bit Input.", 15 DB8 (in) "Twelve Binary Data Bit Input.", 16 DB9 (in) "Twelve Binary Data Bit Input.", 17 DB10 (in) "Twelve Binary Data Bit Input.", 18 DB11 (in) "Twelve Binary Data Bit Input. DB11 is the MSB.", 19 ~{CS} (in) "Chip Select. Active low input.", 20 ~{A}/B (in) "Select DAC A = 0 or DAC B = 1.", 21 ~{LDB} (in) "Load DAC register strobes. Transfers input register data to the DAC registers. Active low inputs, Level sensitive latch. May be connected together to doublebuffer load DAC registers.", 22 VDD (power) "Positive Supply. Nominal value +5 V, +/-5%.", 23 VREF (out) "Nominal 2.5 V reference output voltage. This node must be buffered if required to drive external loads.", 24 VOUTB (out) "Voltage outputs from the DACs. Fixed output voltage range of 0 V to 4.095 V with 1 mV/LSB. An internal temperature stabilized reference maintains a fixed full-scale voltage independent of time, temperature and power supply (See Datasheet)"

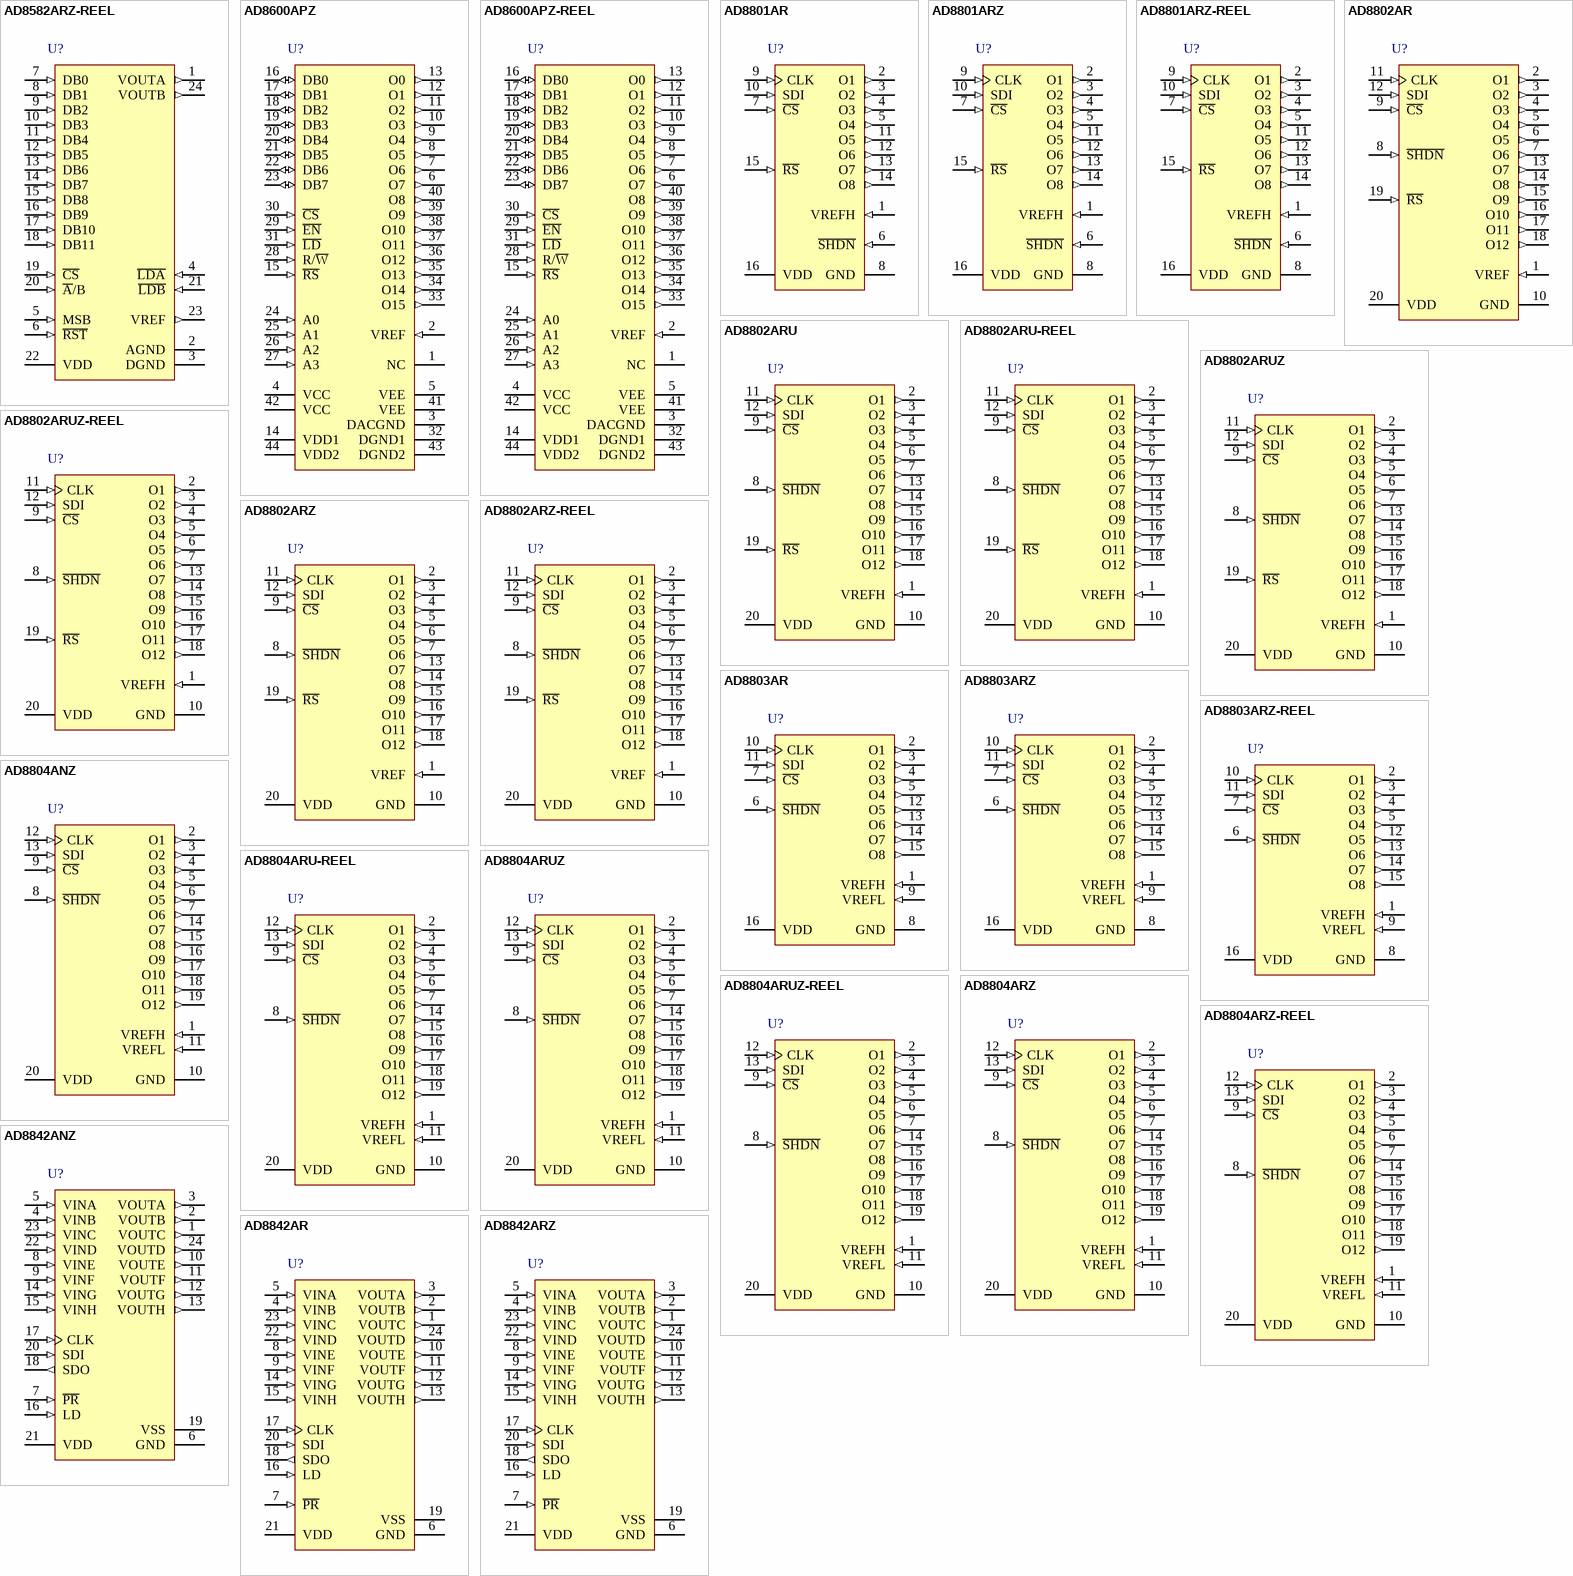
[diagram p82: symbols AD8582ARZ-REEL to AD8842ARZ]

## AD8582ARZ-REEL
designator U?
Dual 12-Bit Digital-to-Analog Converter with Parallel Interface, 5 V, -40 to +85 degC, RW-24, Pb-Free, Reel; Generic Part Number: AD8582; Manufacturer: Analog Devices; PartNumber: AD8582ARZ-REEL; # DAC Outputs: 2; Max V+: 5.25V; Op Pwr Diss: 35mW; Resolution (Bits): 12; Settling Time: 16µs; Single Supply: Yes; DatasheetVersion: Rev.0; PackageVersion: 060706-A; PackageReference: RW-24; PackageDescription: 24-Lead Standard Small Outline Package [SOIC_W]; Supplier 1: Digi-Key; Supplier Part Number 1: AD8582ARZ-REEL-ND; Supplier 2: Mouser; Supplier Part Number 2: 584-AD8582ARZ-R; Packing: Reel; RoHS: Y; Mounting Technology: Surface Mount; Code_JEDEC: MS-013-AD; ComponentLink1Description: Manufacturer URL; ComponentLink1URL: http://www.analog.com/en/index.html; ComponentLink2Description: Datasheet; ComponentLink2URL: http://www.analog.com/static/imported-files/data_sheets/AD8582.pdf; ComponentLink3Description: Package Specification; ComponentLink3URL: http://www.analog.com/static/imported-files/packages/33665150946139RW_24.pdf; ComponentLink4Description: Product URL; ComponentLink4URL: http://www.analog.com/en/digital-to-analog-converters/da-converters/ad8582/products/product.html
footprint RW-24_N (SOIC, 24-Leads, Body 15.4x7.5mm, Pitch 1.27mm, IPC Medium Density)
footprint RW-24_L (SOIC, 24-Leads, Body 15.4x7.5mm, Pitch 1.27mm, IPC High Density)
footprint RW-24_M (SOIC, 24-Leads, Body 15.4x7.5mm, Pitch 1.27mm, IPC Low Density)
pins: 1 VOUTA (out) "Voltage outputs from the DACs. Fixed output voltage range of 0 V to 4.095 V with 1 mV/LSB. An internal temperature stabilized reference maintains a fixed full-scale voltage independent of time, temperature and power supply (See Datasheet)", 2 AGND (power) "Analog Ground. Ground reference for the internal bandgap reference voltage, the DAC, and the output buffer.", 3 DGND (power) "Digital ground for input logic.", 4 ~{LDA} (in) "Load DAC register strobes. Transfers input register data to the DAC registers. Active low inputs, Level sensitive latch. May be connected together to doublebuffer load DAC registers.", 5 MSB (in) "Digital Input: High presets DAC registers to half scale (800H), Low clears DAC registers to zero (000H) upon R\S\T\ assertion.", 6 ~{RST} (in) "Active low digital input that clears the DAC register to zero, setting the DAC to minimum scale when MSB pin = 0, or half-scale when MSB pin = 1.", 7 DB0 (in) "Twelve Binary Data Bit Input.  DB0 is the LSB.", 8 DB1 (in) "Twelve Binary Data Bit Input.", 9 DB2 (in) "Twelve Binary Data Bit Input.", 10 DB3 (in) "Twelve Binary Data Bit Input.", 11 DB4 (in) "Twelve Binary Data Bit Input.", 12 DB5 (in) "Twelve Binary Data Bit Input.", 13 DB6 (in) "Twelve Binary Data Bit Input.", 14 DB7 (in) "Twelve Binary Data Bit Input.", 15 DB8 (in) "Twelve Binary Data Bit Input.", 16 DB9 (in) "Twelve Binary Data Bit Input.", 17 DB10 (in) "Twelve Binary Data Bit Input.", 18 DB11 (in) "Twelve Binary Data Bit Input. DB11 is the MSB.", 19 ~{CS} (in) "Chip Select. Active low input.", 20 ~{A}/B (in) "Select DAC A = 0 or DAC B = 1.", 21 ~{LDB} (in) "Load DAC register strobes. Transfers input register data to the DAC registers. Active low inputs, Level sensitive latch. May be connected together to doublebuffer load DAC registers.", 22 VDD (power) "Positive Supply. Nominal value +5 V, +/-5%.", 23 VREF (out) "Nominal 2.5 V reference output voltage. This node must be buffered if required to drive external loads.", 24 VOUTB (out) "Voltage outputs from the DACs. Fixed output voltage range of 0 V to 4.095 V with 1 mV/LSB. An internal temperature stabilized reference maintains a fixed full-scale voltage independent of time, temperature and power supply (See Datasheet)"

## AD8600APZ
designator U?
16 Channel 8-Bit Multiplying Digital-to-Analog Converter, -40 to +85 degC, P-44A, Pb-Free, Tube; Generic Part Number: AD8600; Manufacturer: Analog Devices; PartNumber: AD8600APZ; # DAC Outputs: 16; Max V+: 7V; Op Pwr Diss: 350mW; Resolution (Bits): 8; Settling Time: 1µs; Single Supply: Yes; DatasheetVersion: Rev.0; PackageVersion: 2003; PackageReference: P-44A; PackageDescription: 44-Lead Plastic Leaded Chip Carrier [PLCC]; Supplier 1: Digi-Key; Supplier Part Number 1: AD8600APZ-ND; Supplier 2: Newark; Supplier Part Number 2: 59K6886; Packing: Tube; RoHS: Y; Mounting Technology: Surface Mount; Code_JEDEC: MO-047-AC; Code_IPC: PLCC-44; ComponentLink1Description: Manufacturer URL; ComponentLink1URL: http://www.analog.com/en/index.html; ComponentLink2Description: Datasheet; ComponentLink2URL: http://www.analog.com/static/imported-files/data_sheets/AD8600.pdf; ComponentLink3Description: Package Specification; ComponentLink3URL: http://www.analog.com/static/imported-files/packages/533756178731793364534243243792136664964P44A.pdf; ComponentLink4Description: Product URL; ComponentLink4URL: http://www.analog.com/en/digital-to-analog-converters/da-converters/ad8600/products/product.html
footprint P-44A_N (Leaded Chip Carrier, 44-Leads, Body 16.6x16.6mm, Pitch 1.27mm, IPC Medium Density)
footprint P-44A_L (Leaded Chip Carrier, 44-Leads, Body 16.6x16.6mm, Pitch 1.27mm, IPC High Density)
footprint P-44A_M (Leaded Chip Carrier, 44-Leads, Body 16.6x16.6mm, Pitch 1.27mm, IPC Low Density)
pins: 1 NC "No Connection", 2 VREF (in) "Reference input voltage common to all DACs.", 3 DACGND (power) "DAC Analog Ground Return. Sets analog zero-scale voltage.", 4 VCC (power) "Output Amplifier Positive Supply", 5 VEE (power) "Output Amplifier Negative Supply", 6 O7 (out) "DAC Channel Output No. 7", 7 O6 (out) "DAC Channel Output No. 6", 8 O5 (out) "DAC Channel Output No. 5", 9 O4 (out) "DAC Channel Output No. 4", 10 O3 (out) "DAC Channel Output No. 3", 11 O2 (out) "DAC Channel Output No. 2", 12 O1 (out) "DAC Channel Output No. 1", 13 O0 (out) "DAC Channel Output No. 0", 14 VDD1 (power) "Digital Logic Power Supply", 15 ~{RS} (in) "Active Low Reset Input Pin", 16 DB0 (io) "Data Bit Zero I/O (LSB)", 17 DB1 (io) "Data Bit I/O", 18 DB2 (io) "Data Bit I/O", 19 DB3 (io) "Data Bit I/O", 20 DB4 (io) "Data Bit I/O", 21 DB5 (io) "Data Bit I/O", 22 DB6 (io) "Data Bit I/O", 23 DB7 (io) "Most Significant Data Bit I/O (MSB)", 24 A0 (in) "Address Bit Zero (LSB)", 25 A1 (in) "Address Bit", 26 A2 (in) "Address Bit", 27 A3 (in) "Most Significant Addr Bit (MSB)", 28 R/~{W} (in) "Read/Write Select Control Input", 29 ~{EN} (in) "Active Low Enable Clock Strobe", 30 ~{CS} (in) "Chip Select Input", 31 ~{LD} (in) "DAC Register Load Strobe", 32 DGND1 (power) "Digital Ground Input No. 1", 33 O15 (out) "DAC Channel Output No. 15", 34 O14 (out) "DAC Channel Output No. 14", 35 O13 (out) "DAC Channel Output No. 13", 36 O12 (out) "DAC Channel Output No. 12", 37 O11 (out) "DAC Channel Output No. 11", 38 O10 (out) "DAC Channel Output No. 10", 39 O9 (out) "DAC Channel Output No. 9", 40 O8 (out) "DAC Channel Output No. 8", 41 VEE (power) "Output Amplifier Negative Supply", 42 VCC (power) "Output Amplifier Positive Supply", 43 DGND2 (power) "Digital Ground Input No. 2", 44 VDD2 (power) "DAC Analog Supply Voltage"